# EAGLE library part AD8302 (library NewSDR)
Analog Devices LF-2.7 GHz RF/IF Gain and Phase Detector
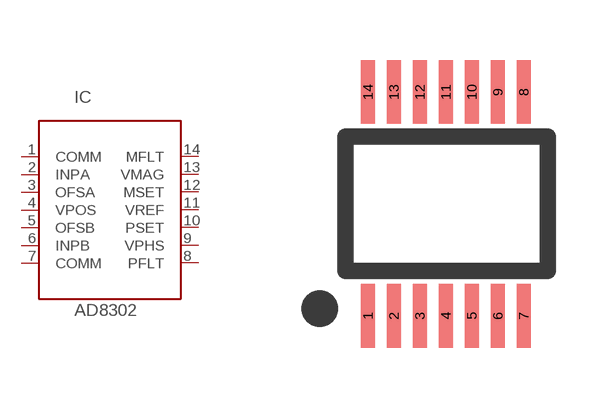
[diagram p154: symbol with the pads of TSSOP14; footprint TSSOP14]

Designator prefix IC

## AD8302  [TSSOP14]
1  COMM  pas
2  INPA  pas
3  OFSA  pas
4  VPOS  pas
5  OFSB  pas
6  INPB  pas
7  COMM  pas
8  PFLT  pas
9  VPHS  pas
10  PSET  pas
11  VREF  pas
12  MSET  pas
13  VMAG  pas
14  MFLT  pas

## Footprint TSSOP14 (pad centres in mm)
Texas Instruments PW (R-PDSO-G14) TSSOP14
smd 0.35 x 1.6: 1 -1.95,-2.8; 2 -1.3,-2.8; 3 -0.65,-2.8; 4 0,-2.8; 5 0.65,-2.8; 6 1.3,-2.8; 7 1.95,-2.8; 8 1.95,2.8; 9 1.3,2.8; 10 0.65,2.8; 11 0,2.8; 12 -0.65,2.8; 13 -1.3,2.8; 14 -1.95,2.8